# Altium schematic symbol library Connector-Battery.SchLib: 2 symbols
Pins are listed as number, name and electrical type; pins without a type are passive.

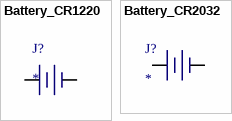
[diagram p0: symbols Battery_CR1220 to Battery_CR2032]

## Battery_CR1220
designator J?
纽扣电池座; Manufacturer_Name: *; Manufacturer_Part_Number: *
footprint CR1220-A
footprint CR1220-B
pins: 1, 2

## Battery_CR2032
designator J?
纽扣电池座; Manufacturer_Name: MYOUNG(美阳); Manufacturer_Part_Number: BS-02-A1AJ006; Manufacturer_Name_1: Q&J; Manufacturer_Part_Number_1: BS-2-1; LCSC: C964745
footprint CR2032-A
footprint CR2032-B
pins: 1, 2